# Altium footprint library RF-UNIT-QRP.PcbLib: 42 footprints (part 2 of 3)
Each footprint in its own frame and in the unit in brackets; x right, y up, seen from the top. Pads: shape width x height; smd on the part's side, far side on the other; paste and mask are expansions set on the pad; w line width, h text height; cw(c..) or ccw(c..) is an arc to the next point about the centre after c.
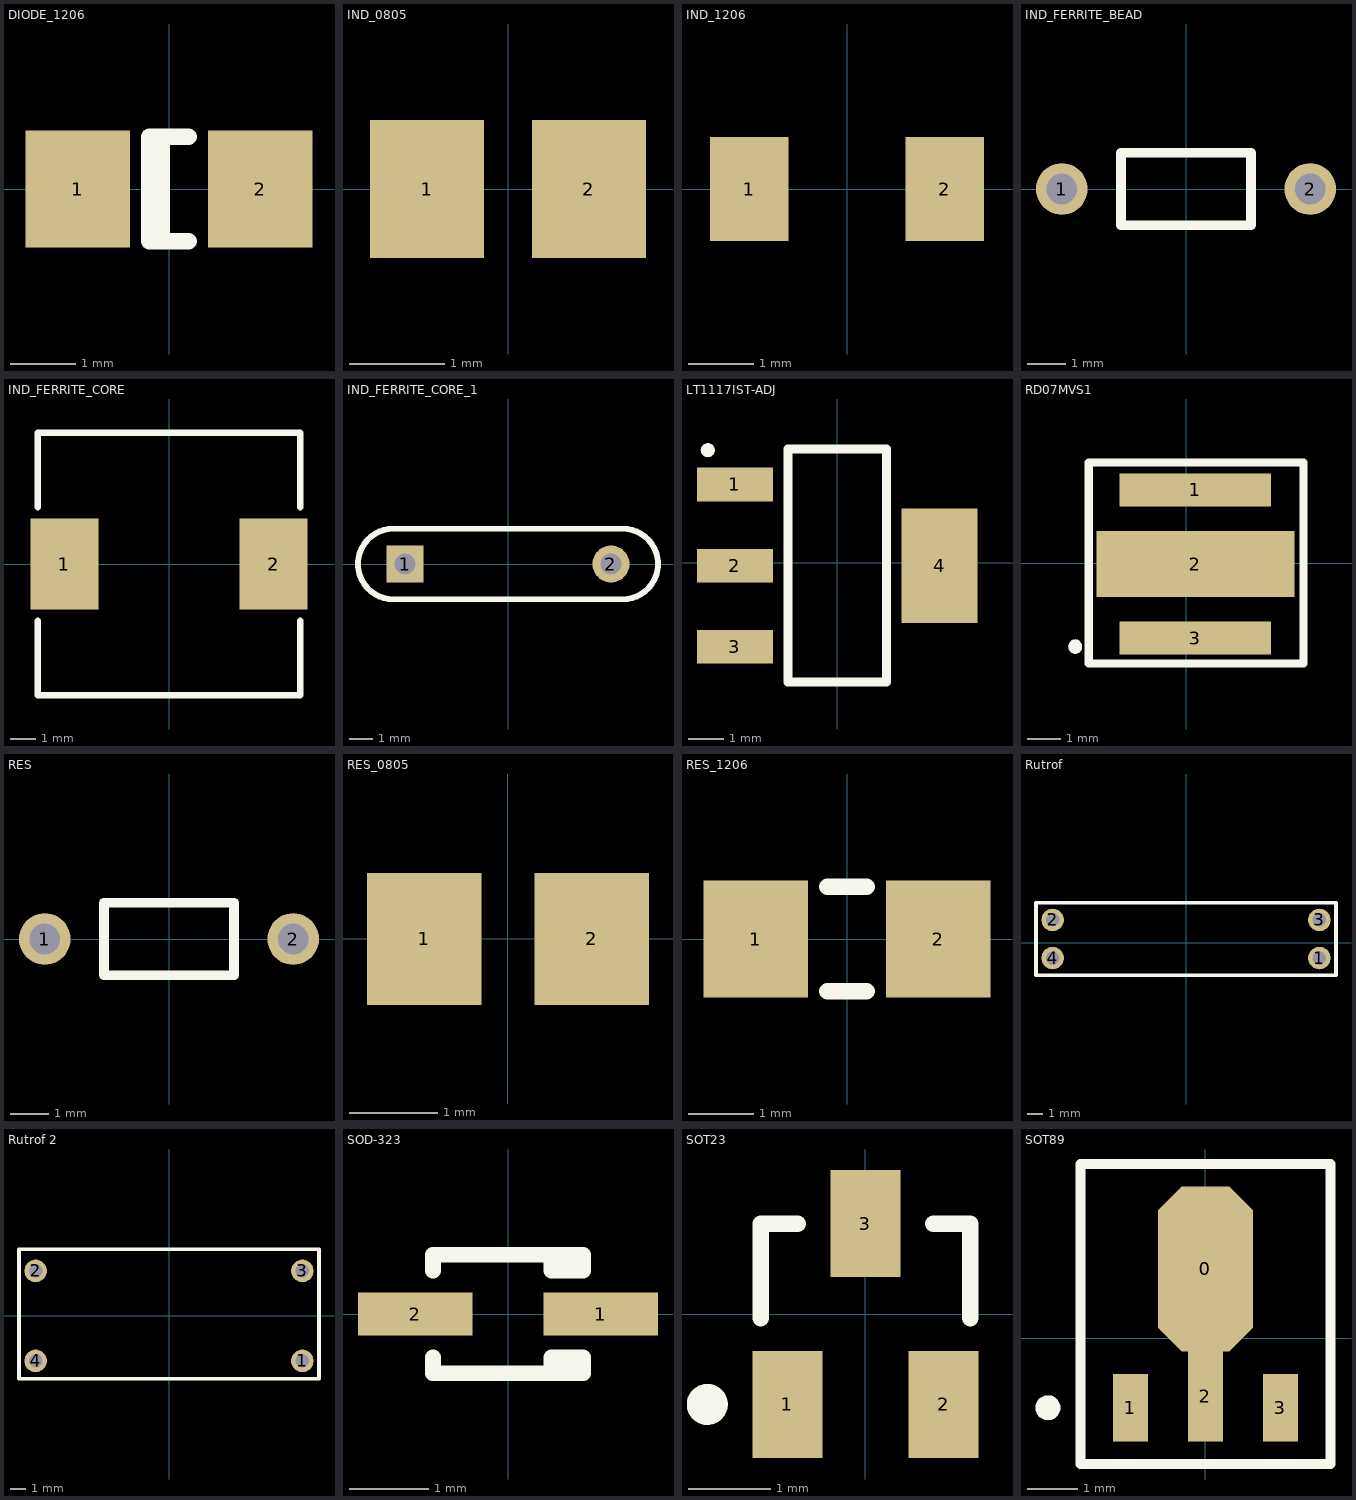
[diagram p1: the footprints below, top view; thin cyan lines are the x and y axes]

## DIODE_1206 [mm]
pads (2):
  rect 1.6x1.8 smd: 1(-1.4,0) 2(1.4,0)
Top Overlay:
  lines w0.254: -0.111,-0.799 -0.111,0.799 ; 0.299,-0.799 -0.299,-0.799 -0.3,0.799 0.299,0.799

## IND_0805 [mm]
pads (2):
  rect 1.2x1.45 smd: 1(-0.85,0) 2(0.85,0)

## IND_1206 [mm]
pads (2):
  rect 1.2x1.6 smd: 1(-1.5,0) 2(1.5,0)

## IND_FERRITE_BEAD [mm]
pads (2):
  round 1.35 hole 0.8: 1(-3.25,0) 2(3.25,0)
Top Overlay:
  lines w0.254: -1.703,-0.95 -1.703,0.95 1.703,0.95 1.703,-0.95 -1.703,-0.95

## IND_FERRITE_CORE [mm]
pads (2):
  rect 2.7x3.6 smd: 1(-4.15,0) 2(4.15,0)
Top Overlay:
  lines w0.254: -5.2,-2.25 -5.2,-5.2 5.2,-5.2 5.2,-2.25 ; -5.2,2.25 -5.2,5.2 5.2,5.2 5.2,2.25

## IND_FERRITE_CORE_1 [mm]
pads (2):
  rect 1.6x1.6 hole 0.9: 1(-4.445,0)
  round 1.6 hole 0.9: 2(4.445,0)
Top Overlay:
  lines w0.254: -4.953,-1.524 cw(c-4.953,0) -4.953,1.524 ; -4.948,-1.524 4.948,-1.524 ; -4.948,1.524 4.948,1.524 ; 4.953,-1.524 ccw(c4.953,0) 4.953,1.524

## LT1117IST-ADJ [mm]
pads (4):
  rect 2.15x0.95 smd: 1(-2.9,2.215) 2(-2.9,-0.085) 3(-2.9,-2.385)
  rect 2.15x3.25 smd: 4(2.9,-0.085)
Top Overlay:
  region: -3.471,3.189 -3.474,3.223 -3.483,3.256 -3.497,3.287 -3.517,3.315 -3.541,3.339 -3.569,3.358 -3.6,3.373 -3.633,3.381 -3.667,3.384 -3.701,3.381 -3.734,3.373 -3.765,3.358 -3.793,3.339 -3.817,3.315 -3.837,3.287 -3.851,3.256 -3.86,3.223 -3.863,3.189 -3.86,3.155 -3.851,3.122 -3.837,3.091 -3.817,3.063 -3.793,3.039 -3.765,3.019 -3.734,3.005 -3.701,2.996 -3.667,2.993 -3.633,2.996 -3.6,3.005 -3.569,3.019 -3.541,3.039 -3.517,3.063 -3.497,3.091 -3.483,3.122 -3.474,3.155
  lines w0.254: -1.4,-3.384 -1.4,3.215 1.4,3.215 1.4,-3.384 -1.4,-3.384

## RD07MVS1 [mm]
pads (3):
  rect 4.6x1 smd: 1(0.285,2.22) 3(0.285,-2.28)
  rect 6x2 smd: 2(0.285,-0.03)
Top Overlay:
  region: -3.155,-2.535 -3.158,-2.498 -3.167,-2.461 -3.183,-2.427 -3.203,-2.397 -3.228,-2.37 -3.257,-2.349 -3.29,-2.333 -3.324,-2.323 -3.36,-2.32 -3.396,-2.323 -3.43,-2.333 -3.463,-2.349 -3.492,-2.37 -3.517,-2.397 -3.538,-2.427 -3.553,-2.461 -3.562,-2.498 -3.565,-2.535 -3.562,-2.572 -3.553,-2.608 -3.538,-2.642 -3.517,-2.673 -3.492,-2.7 -3.463,-2.721 -3.43,-2.737 -3.396,-2.747 -3.36,-2.75 -3.324,-2.747 -3.29,-2.737 -3.257,-2.721 -3.228,-2.7 -3.203,-2.673 -3.183,-2.642 -3.167,-2.608 -3.158,-2.572
  lines w0.254: -2.945,-3.05 -2.945,3.05 3.565,3.05 3.565,-3.05 -2.945,-3.05

## RES [mm]
pads (2):
  round 1.35 hole 0.8: 1(-3.25,0) 2(3.25,0)
Top Overlay:
  lines w0.254: -1.703,-0.95 1.703,-0.95 1.703,0.95 -1.703,0.95 -1.703,-0.95

## RES_0805 [mm]
pads (2):
  rect 1.3x1.5 smd: 1(-0.95,0) 2(0.95,0)

## RES_1206 [mm]
pads (2):
  rect 1.6x1.8 smd: 1(-1.4,0) 2(1.4,0)
Top Overlay:
  lines w0.254: -0.299,-0.799 0.299,-0.799 ; -0.299,0.799 0.299,0.799

## Rutrof [mm]
pads (4):
  round 1.5 hole 0.9: 1(8.89,-1.016) 2(-8.89,1.524) 3(8.89,1.524) 4(-8.89,-1.016)
Top Overlay:
  lines w0.254: -10,-2.159 10,-2.159 10,2.667 -10,2.667 -10,-2.159

## Rutrof 2 [mm]
pads (4):
  round 1.5 hole 0.9: 1(8.89,-3) 2(-8.89,3) 3(8.89,3) 4(-8.89,-3)
Top Overlay:
  lines w0.254: -10,-4.191 10,-4.191 10,4.445 -10,4.445 -10,-4.191

## SOD-323 [mm] "SOD-323/SC-76; 2 Leads; Body 1.7 x 1.3 mm, (LxW)"
height 1.1
pads (2):
  rect 1.45x0.55 smd: 1(1.175,0) 2(-1.175,0)
Top Overlay:
  lines w0.2: -0.95,-0.55 -0.95,-0.75 0.95,-0.75 0.95,-0.55 0.55,-0.55 0.55,-0.75 ; -0.95,0.55 -0.95,0.75 0.95,0.75 0.95,0.55 0.55,0.55 0.55,0.75

## SOT23 [mm] "SOT-23; 3 Leads; Body 3.0 x 2.6 mm, inc. leads (LxW max)"
height 1.1
pads (3):
  rect 0.85x1.3 smd: 1(-0.95,-1.1) 2(0.95,-1.1) 3(0,1.1)
Top Overlay:
  circle w0.25: c-1.925,-1.1 r0.125
  lines w0.2: -1.275,-0.05 -1.275,1.1 -0.825,1.1 ; 0.825,1.1 1.275,1.1 1.275,-0.05

## SOT89 [mm] "SOT-89; Body 4.6 x 4.25 mm, inc. leads (LxW max)"
height 1.6
pads (4):
  oct 1.9x3.3 smd: 0(0,1.388)
  rect 0.7x1.35 smd: 1(-1.5,-1.388) 3(1.5,-1.388)
  rect 0.7x1.8 smd: 2(0,-1.162)
Top Overlay:
  circle w0.25: c-3.15,-1.388 r0.125
  lines w0.2: -2.5,-2.512 2.5,-2.512 2.5,3.487 -2.5,3.487 -2.5,-2.512